# Altium schematic symbol library Schlib1.SchLib: 1 symbol
Pins are listed as number, name and electrical type; pins without a type are passive.

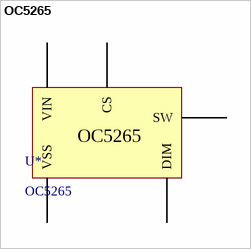
[diagram p0: symbol OC5265]

## OC5265
designator U*
footprint SOT-89-5; pin to pad CS>4 DIM>3 SW>1 VIN>5 VSS>2
pins: CS, DIM, SW, VIN, VSS